# Altium integrated library 5-2176246-9.IntLib: 1 symbol
Pins are listed as number, name and electrical type; pins without a type are passive.

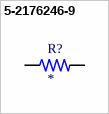
[diagram p0: symbol 5-2176246-9]

## 5-2176246-9
designator R?
RESISTOR, THICK FILM, 68K, 5%, 2512; MP: 5-2176246-9; Package: None; Price: None; Value: *; Availability: Unavailable
footprint RESC6331X70N
pins: 1, 2